# EAGLE library part MAX1627ESA (library Max1627)
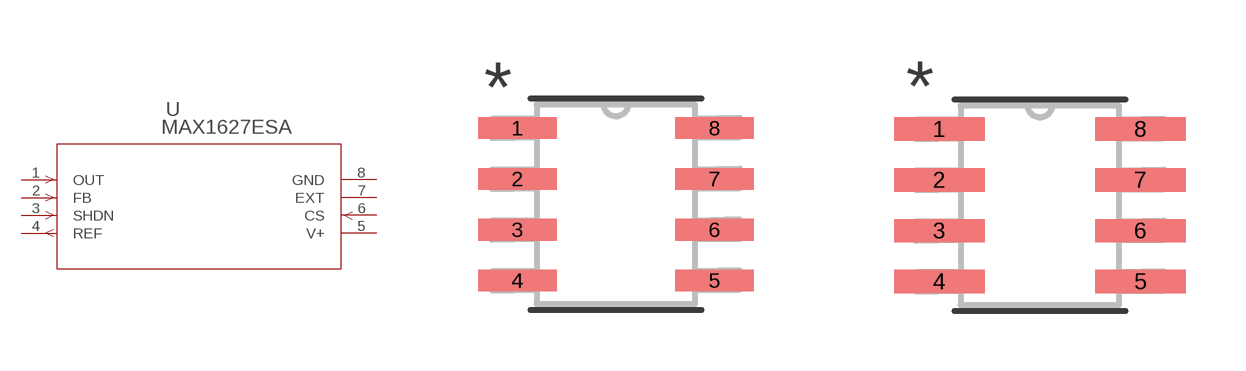
[diagram p0: symbol with the pads of 21-0041B_8; footprints 21-0041B_8, 21-0041B_8-M]

Designator prefix U

## MAX1627ESA (MANUFACTURER_PART_NUMBER: max1627esa; VENDOR: Maxim Integrated Products)  [21-0041B_8]
1  OUT  in
2  FB  in
3  SHDN  in
4  REF  out
5  V+  pwr
6  CS  in
7  EXT  pas
8  GND  pwr

## MAX1627ESA21-0041B_8-M (MANUFACTURER_PART_NUMBER: max1627esa; VENDOR: Maxim Integrated Products)  [21-0041B_8-M]
Pads as for 21-0041B_8

## MAX1627ESA21-0041B_8-L (MANUFACTURER_PART_NUMBER: max1627esa; VENDOR: Maxim Integrated Products)  [21-0041B_8-L]
Pads as for 21-0041B_8

## Footprint 21-0041B_8 (pad centres in mm)
smd 1.97 x 0.543: 1 -2.464,1.905; 2 -2.464,0.635; 3 -2.464,-0.635; 4 -2.464,-1.905; 5 2.464,-1.905; 6 2.464,-0.635; 7 2.464,0.635; 8 2.464,1.905

## Footprint 21-0041B_8-M (pad centres in mm)
smd 2.27 x 0.583: 1 -2.514,1.905; 2 -2.514,0.635; 3 -2.514,-0.635; 4 -2.514,-1.905; 5 2.514,-1.905; 6 2.514,-0.635; 7 2.514,0.635; 8 2.514,1.905

## Footprint 21-0041B_8-L (pad centres in mm)
smd 1.67 x 0.503: 1 -2.414,1.905; 2 -2.414,0.635; 3 -2.414,-0.635; 4 -2.414,-1.905; 5 2.414,-1.905; 6 2.414,-0.635; 7 2.414,0.635; 8 2.414,1.905